# Altium integrated library Logic.IntLib: 4 symbols
Pins are listed as number, name and electrical type; pins without a type are passive.

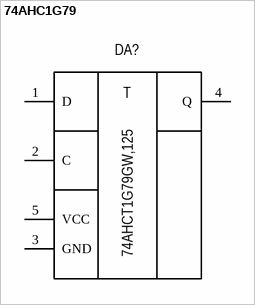
[diagram p0: symbol 74AHC1G79]

## 74AHC1G79
designator DA?, comment 74AHCT1G79GW,125
Flip-Flop D-type; Manufacturer: NXP; Group: Digital - Logic; Voltage supply: 4.5V - 5.5V; Elements: 1; Current output: 8mA; Clock frequency: 90MHz; Component: Flip Flop; Package: TSSOP-5; Part name: 74AHCT1G79GW,125; Height: 1.10mm; Operating temperature: -40°C ~ 125°C; Dimension: 3.10mm x 3.00mm; Type: D-Type; Current output total: 8mA; Mounting type: Surface mount
footprint SOT-353-1
pins: 1 D, 2 C, 3 GND (power), 4 Q, 5 VCC (power)
text: T


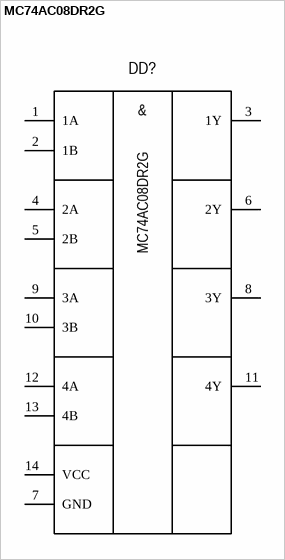
[diagram p1: symbol MC74AC08DR2G]

## MC74AC08DR2G
designator DD?
GATE AND 4CH SOIC-14; Manufacturer: ON Semiconductor; Group: Digital; Voltage supply: 2V - 6V; Chanels: 4; Current output: 24mA; Component: Logic Gates; Logic level low: 0.9V - 1.65V; Logic level high: 2.1V - 3.85V; Propagation delay: 7.5ns; Inputs: 2; Package: SOIC-14; Part name: MC74AC08DR2G; Operating temperature: -40°C +85°C; Height: 1.75mm; Dimension: 8.75mm x 6.20mm; Mounting type: Surface mount; Logic type: AND
footprint SOIC-14N
pins: 1 1A, 2 1B, 3 1Y, 4 2A, 5 2B, 6 2Y, 7 GND, 8 3Y, 9 3A, 10 3B, 11 4Y, 12 4A, 13 4B, 14 VCC
text: &


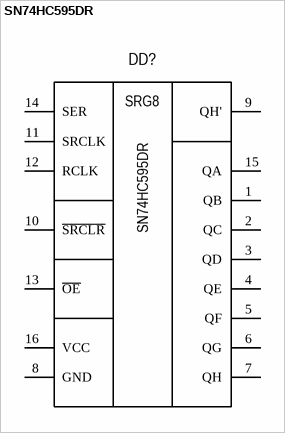
[diagram p2: symbol SN74HC595DR]

## SN74HC595DR
designator DD?
SHREG 8Ch SOIC-16; Manufacturer: Texas Instruments; Group: Digital; Voltage supply: 2V - 6V; Bits: 8; Current output: 35mA; Current output total: 70mA; Clock frequency: 25MHz; Component: Logic Shift Registers; Package: SOIC-16; Part name: SN74HC595DR; Operating temperature: -40°C +85°C; Height: 1.75mm; Dimension: 10.00mm x 6.20mm; Mounting type: Surface mount
footprint SOIC-16 (3.90mm)
pins: 1 QB, 2 QC, 3 QD, 4 QE, 5 QF, 6 QG, 7 QH, 8 GND, 9 QH', 10 ~{SRCLR}, 11 SRCLK, 12 RCLK, 13 ~{OE}, 14 SER, 15 QA, 16 VCC
text: SRG8


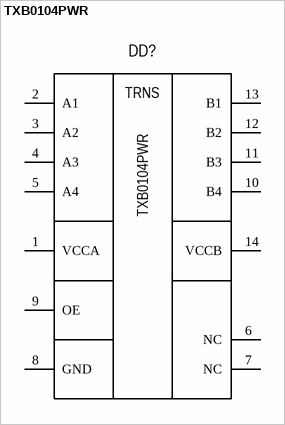
[diagram p3: symbol TXB0104PWR]

## TXB0104PWR
designator DD?
Translator 4Ch BiDir 1.2V-3.6V / 1.65V-5.5V; Manufacturer: Texas Instruments; Group: Digital; Chanels: 4; Data rate: 100Mbps; Component: Logic Translator; Package: TSSOP-14; Part name: TXB0104PWR; Voltage supply input: 1.2V - 3.6V; Operating temperature: -40°C +85°C; Height: 1.1mm; Dimension: 5.10mm x 6.60mm; Mounting type: Surface mount; Voltage supply output: 1.65V - 5.5V
footprint TSSOP-14
pins: 1 VCCA, 2 A1, 3 A2, 4 A3, 5 A4, 6 NC, 7 NC, 8 GND, 9 OE, 10 B4, 11 B3, 12 B2, 13 B1, 14 VCCB
text: TRNS